# EAGLE library part 3DROBOTICS_2X6_EXPANSION (library rgb_cube)
1.27mm SINGLE ROW FEMALE SOCKET Source: http://www.leotronics.co.uk/Conexcon/Data%20Sheets/sec.%20A/1296ing.pdf
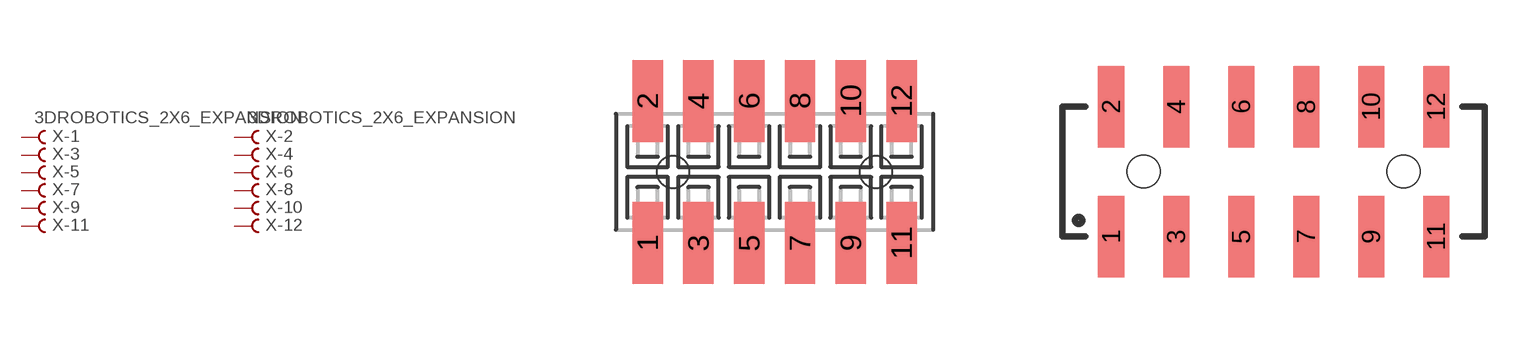
[diagram p58: symbol with the pads of 3DROBOTICS_1296-12; footprints 3DROBOTICS_1296-12, 3DROBOTICS_2MM-DUAL-ROW-MALE-HEADER-SMT-2X6]

Designator prefix X; gates -1=3DROBOTICS_FVAL -2=3DROBOTICS_FVAL -3=3DROBOTICS_F -4=3DROBOTICS_F -5=3DROBOTICS_F -6=3DROBOTICS_F -7=3DROBOTICS_F -8=3DROBOTICS_F -9=3DROBOTICS_F -10=3DROBOTICS_F -11=3DROBOTICS_F -12=3DROBOTICS_F

## 3DROBOTICS_2X6_EXPANSION  [3DROBOTICS_1296-12]
1  -1:B  pas
2  -2:B  pas
3  -3:B  pas
4  -4:B  pas
5  -5:B  pas
6  -6:B  pas
7  -7:B  pas
8  -8:B  pas
9  -9:B  pas
10  -10:B  pas
11  -11:B  pas
12  -12:B  pas

## 3DROBOTICS_2X6_EXPANSION2MM-2X6  [3DROBOTICS_2MM-DUAL-ROW-MALE-HEADER-SMT-2X6]
Pads as for 3DROBOTICS_1296-12

## Footprint 3DROBOTICS_1296-12 (pad centres in mm)
1.27mm SINGLE ROW FEMALE SOCKET Source: http://www.leotronics.co.uk/Conexcon/Data%20Sheets/sec.%20A/1296ing.pdf
smd 0.76 x 2.05: 1 -3.175,-1.78; 2 -3.175,1.78; 3 -1.905,-1.78; 4 -1.905,1.78; 5 -0.635,-1.78; 6 -0.635,1.78; 7 0.635,-1.78; 8 0.635,1.78; 9 1.905,-1.78; 10 1.905,1.78; 11 3.175,-1.78; 12 3.175,1.78
hole 0.8 at -2.54,0
hole 0.8 at 2.54,0

## Footprint 3DROBOTICS_2MM-DUAL-ROW-MALE-HEADER-SMT-2X6 (pad centres in mm)
smd 0.8 x 2.5: 1 -5,-2; 2 -5,2; 3 -3,-2; 4 -3,2; 5 -1,-2; 6 -1,2; 7 1,-2; 8 1,2; 9 3,-2; 10 3,2; 11 5,-2; 12 5,2
hole 1 at -4,0
hole 1 at 4,0